# EAGLE library part PAM8403 (library PAM8403_Piyush)
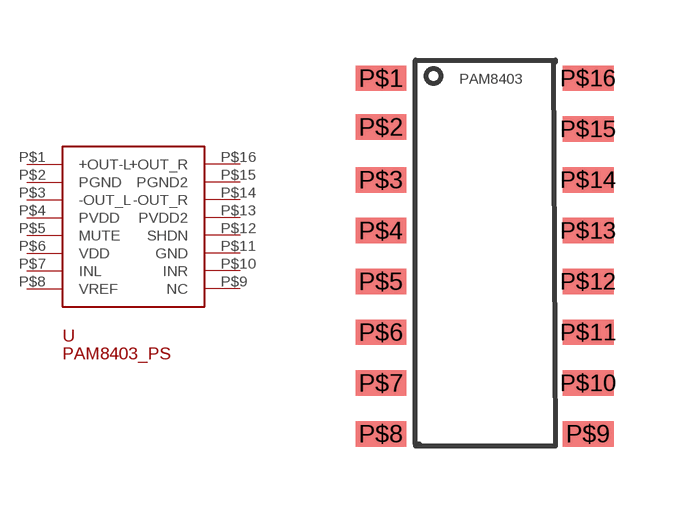
[diagram p0: symbol with the pads of SOP16; footprint SOP16]

Designator prefix -

## PAM8403  [SOP16]
P$1  +OUT-L
P$2  PGND
P$3  -OUT_L
P$4  PVDD
P$5  MUTE
P$6  VDD
P$7  INL
P$8  VREF
P$9  NC
P$10  INR
P$11  GND
P$12  SHDN
P$13  PVDD2
P$14  -OUT_R
P$15  PGND2
P$16  +OUT_R

## Footprint SOP16 (pad centres in mm)
SOP16 PAM8403
smd 1.27 x 0.635: P$1 -2.513,1.143; P$2 -2.513,-0.077; P$3 -2.513,-1.397; P$4 -2.513,-2.667; P$5 -2.513,-3.937; P$6 -2.513,-5.207; P$7 -2.513,-6.477; P$8 -2.513,-7.747; P$9 2.667,-7.747; P$10 2.667,-6.477; P$11 2.667,-5.207; P$12 2.667,-3.937; P$13 2.667,-2.667; P$14 2.667,-1.397; P$15 2.667,-0.127; P$16 2.667,1.143